# Altium footprint library Connector_Molex.PcbLib: 815 footprints (part 34 of 51)
Each footprint in its own frame and in the unit in brackets; x right, y up, seen from the top. Pads: shape width x height; smd on the part's side, far side on the other; paste and mask are expansions set on the pad; w line width, h text height; cw(c..) or ccw(c..) is an arc to the next point about the centre after c.
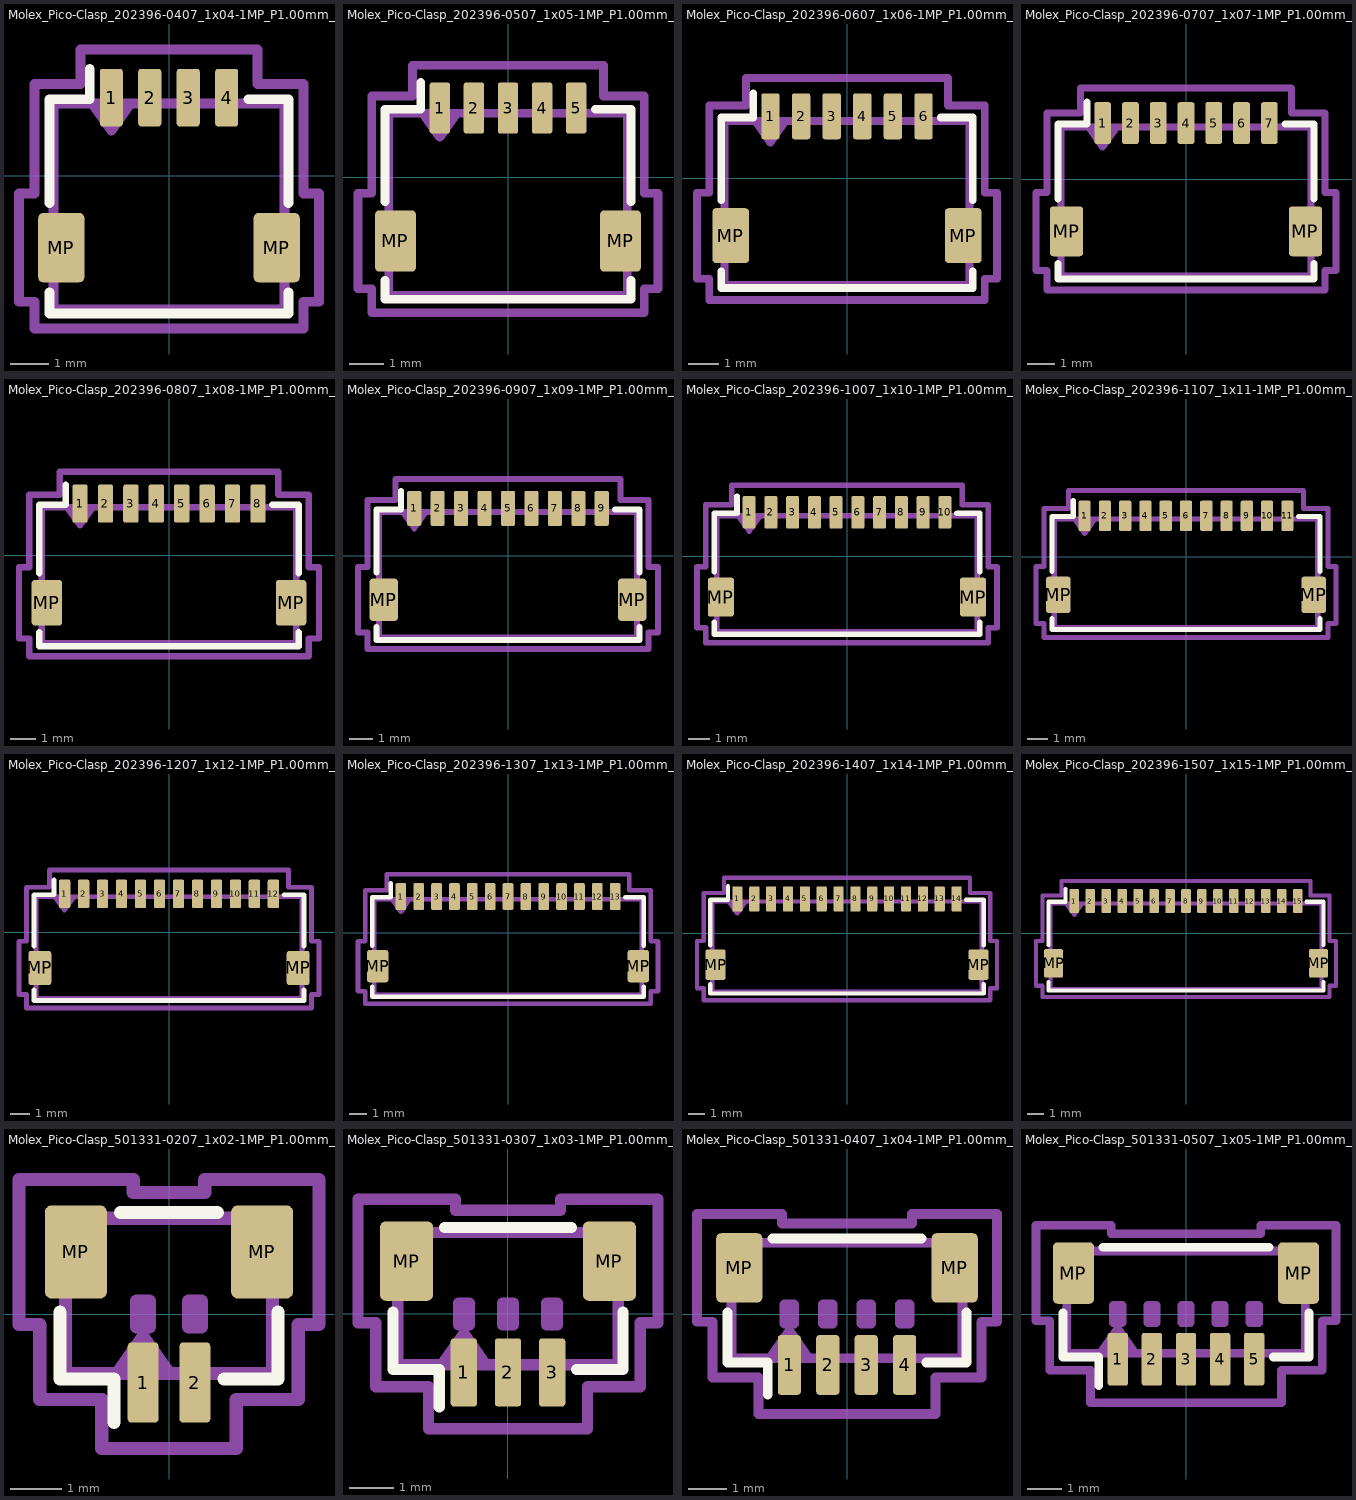
[diagram p33: the footprints below, top view; thin cyan lines are the x and y axes]

## Molex_Pico-Clasp_202396-0407_1x04-1MP_P1.00mm_Horizontal [mm]
pads (6):
  rrect25% 0.6x1.5 smd: 1(-1.5,2.025) 2(-0.5,2.025) 3(0.5,2.025) 4(1.5,2.025)
  rrect21% 1.2x1.8 smd: MP(-2.8,-1.875) MP(2.8,-1.875)
F.SilkS:
  lines w0.254: -3.11,-3.035 -3.11,-3.585 3.11,-3.585 3.11,-3.035 ; -3.11,-0.715 -3.11,1.985 -2.06,1.985 -2.06,2.775 ; 2.06,1.985 3.11,1.985 3.11,-0.715
Top Assembly:
  lines w0.254: -2,1.875 -1.5,1.168 -1,1.875 ; -3,-3.475 3,-3.475 3,1.875 -3,1.875 -3,-3.475
  text "'.Designator'" at -4.047,-3.61 h1
Top Courtyard:
  lines w0.254: -3.9,-3.28 -3.5,-3.28 -3.5,-3.98 3.5,-3.98 3.5,-3.28 3.9,-3.28 3.9,-0.47 3.5,-0.47 3.5,2.38 2.3,2.38 2.3,3.28 -2.3,3.28 -2.3,2.38 -3.5,2.38 -3.5,-0.47 -3.9,-0.47 -3.9,-3.28
Top Designator:
  text ".Designator" at -7.702,-0.858 h1.52

## Molex_Pico-Clasp_202396-0507_1x05-1MP_P1.00mm_Horizontal [mm]
pads (7):
  rrect25% 0.6x1.5 smd: 1(-2,2.025) 2(-1,2.025) 3(0,2.025) 4(1,2.025) 5(2,2.025)
  rrect21% 1.2x1.8 smd: MP(-3.3,-1.875) MP(3.3,-1.875)
F.SilkS:
  lines w0.254: -3.61,-3.035 -3.61,-3.585 3.61,-3.585 3.61,-3.035 ; -3.61,-0.715 -3.61,1.985 -2.56,1.985 -2.56,2.775 ; 2.56,1.985 3.61,1.985 3.61,-0.715
Top Assembly:
  lines w0.254: -2.5,1.875 -2,1.168 -1.5,1.875 ; -3.5,-3.475 3.5,-3.475 3.5,1.875 -3.5,1.875 -3.5,-3.475
  text "'.Designator'" at -4.047,-3.61 h1
Top Courtyard:
  lines w0.254: -4.4,-3.28 -4,-3.28 -4,-3.98 4,-3.98 4,-3.28 4.4,-3.28 4.4,-0.47 4,-0.47 4,2.38 2.8,2.38 2.8,3.28 -2.8,3.28 -2.8,2.38 -4,2.38 -4,-0.47 -4.4,-0.47 -4.4,-3.28
Top Designator:
  text ".Designator" at -7.618,-0.858 h1.52

## Molex_Pico-Clasp_202396-0607_1x06-1MP_P1.00mm_Horizontal [mm]
pads (8):
  rrect25% 0.6x1.5 smd: 1(-2.5,2.025) 2(-1.5,2.025) 3(-0.5,2.025) 4(0.5,2.025) 5(1.5,2.025) 6(2.5,2.025)
  rrect21% 1.2x1.8 smd: MP(-3.8,-1.875) MP(3.8,-1.875)
F.SilkS:
  lines w0.254: -4.11,-3.035 -4.11,-3.585 4.11,-3.585 4.11,-3.035 ; -4.11,-0.715 -4.11,1.985 -3.06,1.985 -3.06,2.775 ; 3.06,1.985 4.11,1.985 4.11,-0.715
Top Assembly:
  lines w0.254: -3,1.875 -2.5,1.168 -2,1.875 ; -4,-3.475 4,-3.475 4,1.875 -4,1.875 -4,-3.475
  text "'.Designator'" at -4.047,-3.61 h1
Top Courtyard:
  lines w0.254: -4.9,-3.28 -4.5,-3.28 -4.5,-3.98 4.5,-3.98 4.5,-3.28 4.9,-3.28 4.9,-0.47 4.5,-0.47 4.5,2.38 3.3,2.38 3.3,3.28 -3.3,3.28 -3.3,2.38 -4.5,2.38 -4.5,-0.47 -4.9,-0.47 -4.9,-3.28
Top Designator:
  text ".Designator" at -7.618,-0.858 h1.52

## Molex_Pico-Clasp_202396-0707_1x07-1MP_P1.00mm_Horizontal [mm]
pads (9):
  rrect25% 0.6x1.5 smd: 1(-3,2.025) 2(-2,2.025) 3(-1,2.025) 4(0,2.025) 5(1,2.025) 6(2,2.025) 7(3,2.025)
  rrect21% 1.2x1.8 smd: MP(-4.3,-1.875) MP(4.3,-1.875)
F.SilkS:
  lines w0.254: -4.61,-3.035 -4.61,-3.585 4.61,-3.585 4.61,-3.035 ; -4.61,-0.715 -4.61,1.985 -3.56,1.985 -3.56,2.775 ; 3.56,1.985 4.61,1.985 4.61,-0.715
Top Assembly:
  lines w0.254: -3.5,1.875 -3,1.168 -2.5,1.875 ; -4.5,-3.475 4.5,-3.475 4.5,1.875 -4.5,1.875 -4.5,-3.475
  text "'.Designator'" at -4.047,-3.61 h1
Top Courtyard:
  lines w0.254: -5.4,-3.28 -5,-3.28 -5,-3.98 5,-3.98 5,-3.28 5.4,-3.28 5.4,-0.47 5,-0.47 5,2.38 3.8,2.38 3.8,3.28 -3.8,3.28 -3.8,2.38 -5,2.38 -5,-0.47 -5.4,-0.47 -5.4,-3.28
Top Designator:
  text ".Designator" at -7.618,-0.858 h1.52

## Molex_Pico-Clasp_202396-0807_1x08-1MP_P1.00mm_Horizontal [mm]
pads (10):
  rrect25% 0.6x1.5 smd: 1(-3.5,2.025) 2(-2.5,2.025) 3(-1.5,2.025) 4(-0.5,2.025) 5(0.5,2.025) 6(1.5,2.025) 7(2.5,2.025) 8(3.5,2.025)
  rrect21% 1.2x1.8 smd: MP(-4.8,-1.875) MP(4.8,-1.875)
F.SilkS:
  lines w0.254: -5.11,-3.035 -5.11,-3.585 5.11,-3.585 5.11,-3.035 ; -5.11,-0.715 -5.11,1.985 -4.06,1.985 -4.06,2.775 ; 4.06,1.985 5.11,1.985 5.11,-0.715
Top Assembly:
  lines w0.254: -4,1.875 -3.5,1.168 -3,1.875 ; -5,-3.475 5,-3.475 5,1.875 -5,1.875 -5,-3.475
  text "'.Designator'" at -4.047,-3.61 h1
Top Courtyard:
  lines w0.254: -5.9,-3.28 -5.5,-3.28 -5.5,-3.98 5.5,-3.98 5.5,-3.28 5.9,-3.28 5.9,-0.47 5.5,-0.47 5.5,2.38 4.3,2.38 4.3,3.28 -4.3,3.28 -4.3,2.38 -5.5,2.38 -5.5,-0.47 -5.9,-0.47 -5.9,-3.28
Top Designator:
  text ".Designator" at -7.618,-0.858 h1.52

## Molex_Pico-Clasp_202396-0907_1x09-1MP_P1.00mm_Horizontal [mm]
pads (11):
  rrect25% 0.6x1.5 smd: 1(-4,2.025) 2(-3,2.025) 3(-2,2.025) 4(-1,2.025) 5(0,2.025) 6(1,2.025) 7(2,2.025) 8(3,2.025) 9(4,2.025)
  rrect21% 1.2x1.8 smd: MP(-5.3,-1.875) MP(5.3,-1.875)
F.SilkS:
  lines w0.254: -5.61,-3.035 -5.61,-3.585 5.61,-3.585 5.61,-3.035 ; -5.61,-0.715 -5.61,1.985 -4.56,1.985 -4.56,2.775 ; 4.56,1.985 5.61,1.985 5.61,-0.715
Top Assembly:
  lines w0.254: -4.5,1.875 -4,1.168 -3.5,1.875 ; -5.5,-3.475 5.5,-3.475 5.5,1.875 -5.5,1.875 -5.5,-3.475
  text "'.Designator'" at -4.047,-3.61 h1
Top Courtyard:
  lines w0.254: -6.4,-3.28 -6,-3.28 -6,-3.98 6,-3.98 6,-3.28 6.4,-3.28 6.4,-0.47 6,-0.47 6,2.38 4.8,2.38 4.8,3.28 -4.8,3.28 -4.8,2.38 -6,2.38 -6,-0.47 -6.4,-0.47 -6.4,-3.28
Top Designator:
  text ".Designator" at -7.618,-0.858 h1.52

## Molex_Pico-Clasp_202396-1007_1x10-1MP_P1.00mm_Horizontal [mm]
pads (12):
  rrect25% 0.6x1.5 smd: 1(-4.5,2.025) 2(-3.5,2.025) 3(-2.5,2.025) 4(-1.5,2.025) 5(-0.5,2.025) 6(0.5,2.025) 7(1.5,2.025) 8(2.5,2.025) 9(3.5,2.025) 10(4.5,2.025)
  rrect21% 1.2x1.8 smd: MP(-5.8,-1.875) MP(5.8,-1.875)
F.SilkS:
  lines w0.254: -6.11,-3.035 -6.11,-3.585 6.11,-3.585 6.11,-3.035 ; -6.11,-0.715 -6.11,1.985 -5.06,1.985 -5.06,2.775 ; 5.06,1.985 6.11,1.985 6.11,-0.715
Top Assembly:
  lines w0.254: -5,1.875 -4.5,1.168 -4,1.875 ; -6,-3.475 6,-3.475 6,1.875 -6,1.875 -6,-3.475
  text "'.Designator'" at -4.047,-3.61 h1
Top Courtyard:
  lines w0.254: -6.9,-3.28 -6.5,-3.28 -6.5,-3.98 6.5,-3.98 6.5,-3.28 6.9,-3.28 6.9,-0.47 6.5,-0.47 6.5,2.38 5.3,2.38 5.3,3.28 -5.3,3.28 -5.3,2.38 -6.5,2.38 -6.5,-0.47 -6.9,-0.47 -6.9,-3.28
Top Designator:
  text ".Designator" at -7.618,-0.858 h1.52

## Molex_Pico-Clasp_202396-1107_1x11-1MP_P1.00mm_Horizontal [mm]
pads (13):
  rrect25% 0.6x1.5 smd: 1(-5,2.025) 2(-4,2.025) 3(-3,2.025) 4(-2,2.025) 5(-1,2.025) 6(0,2.025) 7(1,2.025) 8(2,2.025) 9(3,2.025) 10(4,2.025) 11(5,2.025)
  rrect21% 1.2x1.8 smd: MP(-6.3,-1.875) MP(6.3,-1.875)
F.SilkS:
  lines w0.254: -6.61,-3.035 -6.61,-3.585 6.61,-3.585 6.61,-3.035 ; -6.61,-0.715 -6.61,1.985 -5.56,1.985 -5.56,2.775 ; 5.56,1.985 6.61,1.985 6.61,-0.715
Top Assembly:
  lines w0.254: -5.5,1.875 -5,1.168 -4.5,1.875 ; -6.5,-3.475 6.5,-3.475 6.5,1.875 -6.5,1.875 -6.5,-3.475
  text "'.Designator'" at -4.047,-3.61 h1
Top Courtyard:
  lines w0.254: -7.4,-3.28 -7,-3.28 -7,-3.98 7,-3.98 7,-3.28 7.4,-3.28 7.4,-0.47 7,-0.47 7,2.38 5.8,2.38 5.8,3.28 -5.8,3.28 -5.8,2.38 -7,2.38 -7,-0.47 -7.4,-0.47 -7.4,-3.28
Top Designator:
  text ".Designator" at -7.618,-0.858 h1.52

## Molex_Pico-Clasp_202396-1207_1x12-1MP_P1.00mm_Horizontal [mm]
pads (14):
  rrect25% 0.6x1.5 smd: 1(-5.5,2.025) 2(-4.5,2.025) 3(-3.5,2.025) 4(-2.5,2.025) 5(-1.5,2.025) 6(-0.5,2.025) 7(0.5,2.025) 8(1.5,2.025) 9(2.5,2.025) 10(3.5,2.025) 11(4.5,2.025) 12(5.5,2.025)
  rrect21% 1.2x1.8 smd: MP(-6.8,-1.875) MP(6.8,-1.875)
F.SilkS:
  lines w0.254: -7.11,-3.035 -7.11,-3.585 7.11,-3.585 7.11,-3.035 ; -7.11,-0.715 -7.11,1.985 -6.06,1.985 -6.06,2.775 ; 6.06,1.985 7.11,1.985 7.11,-0.715
Top Assembly:
  lines w0.254: -6,1.875 -5.5,1.168 -5,1.875 ; -7,-3.475 7,-3.475 7,1.875 -7,1.875 -7,-3.475
  text "'.Designator'" at -4.047,-3.61 h1
Top Courtyard:
  lines w0.254: -7.9,-3.28 -7.5,-3.28 -7.5,-3.98 7.5,-3.98 7.5,-3.28 7.9,-3.28 7.9,-0.47 7.5,-0.47 7.5,2.38 6.3,2.38 6.3,3.28 -6.3,3.28 -6.3,2.38 -7.5,2.38 -7.5,-0.47 -7.9,-0.47 -7.9,-3.28
Top Designator:
  text ".Designator" at -7.618,-0.858 h1.52

## Molex_Pico-Clasp_202396-1307_1x13-1MP_P1.00mm_Horizontal [mm]
pads (15):
  rrect25% 0.6x1.5 smd: 1(-6,2.025) 2(-5,2.025) 3(-4,2.025) 4(-3,2.025) 5(-2,2.025) 6(-1,2.025) 7(0,2.025) 8(1,2.025) 9(2,2.025) 10(3,2.025) 11(4,2.025) 12(5,2.025) 13(6,2.025)
  rrect21% 1.2x1.8 smd: MP(-7.3,-1.875) MP(7.3,-1.875)
F.SilkS:
  lines w0.254: -7.61,-3.035 -7.61,-3.585 7.61,-3.585 7.61,-3.035 ; -7.61,-0.715 -7.61,1.985 -6.56,1.985 -6.56,2.775 ; 6.56,1.985 7.61,1.985 7.61,-0.715
Top Assembly:
  lines w0.254: -6.5,1.875 -6,1.168 -5.5,1.875 ; -7.5,-3.475 7.5,-3.475 7.5,1.875 -7.5,1.875 -7.5,-3.475
  text "'.Designator'" at -4.047,-3.61 h1
Top Courtyard:
  lines w0.254: -8.4,-3.28 -8,-3.28 -8,-3.98 8,-3.98 8,-3.28 8.4,-3.28 8.4,-0.47 8,-0.47 8,2.38 6.8,2.38 6.8,3.28 -6.8,3.28 -6.8,2.38 -8,2.38 -8,-0.47 -8.4,-0.47 -8.4,-3.28
Top Designator:
  text ".Designator" at -7.618,-0.858 h1.52

## Molex_Pico-Clasp_202396-1407_1x14-1MP_P1.00mm_Horizontal [mm]
pads (16):
  rrect25% 0.6x1.5 smd: 1(-6.5,2.025) 2(-5.5,2.025) 3(-4.5,2.025) 4(-3.5,2.025) 5(-2.5,2.025) 6(-1.5,2.025) 7(-0.5,2.025) 8(0.5,2.025) 9(1.5,2.025) 10(2.5,2.025) 11(3.5,2.025) 12(4.5,2.025) 13(5.5,2.025) 14(6.5,2.025)
  rrect21% 1.2x1.8 smd: MP(-7.8,-1.875) MP(7.8,-1.875)
F.SilkS:
  lines w0.254: -8.11,-3.035 -8.11,-3.585 8.11,-3.585 8.11,-3.035 ; -8.11,-0.715 -8.11,1.985 -7.06,1.985 -7.06,2.775 ; 7.06,1.985 8.11,1.985 8.11,-0.715
Top Assembly:
  lines w0.254: -7,1.875 -6.5,1.168 -6,1.875 ; -8,-3.475 8,-3.475 8,1.875 -8,1.875 -8,-3.475
  text "'.Designator'" at -4.047,-3.61 h1
Top Courtyard:
  lines w0.254: -8.9,-3.28 -8.5,-3.28 -8.5,-3.98 8.5,-3.98 8.5,-3.28 8.9,-3.28 8.9,-0.47 8.5,-0.47 8.5,2.38 7.3,2.38 7.3,3.28 -7.3,3.28 -7.3,2.38 -8.5,2.38 -8.5,-0.47 -8.9,-0.47 -8.9,-3.28
Top Designator:
  text ".Designator" at -7.618,-0.858 h1.52

## Molex_Pico-Clasp_202396-1507_1x15-1MP_P1.00mm_Horizontal [mm]
pads (17):
  rrect25% 0.6x1.5 smd: 1(-7,2.025) 2(-6,2.025) 3(-5,2.025) 4(-4,2.025) 5(-3,2.025) 6(-2,2.025) 7(-1,2.025) 8(0,2.025) 9(1,2.025) 10(2,2.025) 11(3,2.025) 12(4,2.025) 13(5,2.025) 14(6,2.025) 15(7,2.025)
  rrect21% 1.2x1.8 smd: MP(-8.3,-1.875) MP(8.3,-1.875)
F.SilkS:
  lines w0.254: -8.61,-3.035 -8.61,-3.585 8.61,-3.585 8.61,-3.035 ; -8.61,-0.715 -8.61,1.985 -7.56,1.985 -7.56,2.775 ; 7.56,1.985 8.61,1.985 8.61,-0.715
Top Assembly:
  lines w0.254: -7.5,1.875 -7,1.168 -6.5,1.875 ; -8.5,-3.475 8.5,-3.475 8.5,1.875 -8.5,1.875 -8.5,-3.475
  text "'.Designator'" at -4.047,-3.61 h1
Top Courtyard:
  lines w0.254: -9.4,-3.28 -9,-3.28 -9,-3.98 9,-3.98 9,-3.28 9.4,-3.28 9.4,-0.47 9,-0.47 9,2.38 7.8,2.38 7.8,3.28 -7.8,3.28 -7.8,2.38 -9,2.38 -9,-0.47 -9.4,-0.47 -9.4,-3.28
Top Designator:
  text ".Designator" at -7.618,-0.858 h1.52

## Molex_Pico-Clasp_501331-0207_1x02-1MP_P1.00mm_Vertical [mm]
pads (4):
  rrect25% 0.6x1.55 smd: 1(-0.5,-1.325) 2(0.5,-1.325)
  rrect21% 1.2x1.8 smd: MP(-1.8,1.2) MP(1.8,1.2)
F.SilkS:
  lines w0.254: -2.11,0.04 -2.11,-1.26 -1.06,-1.26 -1.06,-2.1 ; -0.94,1.96 0.94,1.96 ; 1.06,-1.26 2.11,-1.26 2.11,0.04
Top Assembly:
  lines w0.254: -1,-1.15 -0.5,-0.443 0,-1.15 ; -2,-1.15 2,-1.15 2,1.85 -2,1.85 -2,-1.15 ; -0.625,-0.25 -0.375,-0.25 -0.375,0.25 -0.625,0.25 -0.625,-0.25 ; 0.375,-0.25 0.625,-0.25 0.625,0.25 0.375,0.25 0.375,-0.25
  text "'.Designator'" at -4.047,0.31 h1
Top Courtyard:
  lines w0.254: -2.9,-0.2 -2.5,-0.2 -2.5,-1.65 -1.3,-1.65 -1.3,-2.6 1.3,-2.6 1.3,-1.65 2.5,-1.65 2.5,-0.2 2.9,-0.2 2.9,2.6 0.69,2.6 0.69,2.35 -0.69,2.35 -0.69,2.6 -2.9,2.6 -2.9,-0.2
Top Designator:
  text ".Designator" at -7.768,-0.508 h1.52

## Molex_Pico-Clasp_501331-0307_1x03-1MP_P1.00mm_Vertical [mm]
pads (5):
  rrect25% 0.6x1.55 smd: 1(-1,-1.325) 2(0,-1.325) 3(1,-1.325)
  rrect21% 1.2x1.8 smd: MP(-2.3,1.2) MP(2.3,1.2)
F.SilkS:
  lines w0.254: -2.61,0.04 -2.61,-1.26 -1.56,-1.26 -1.56,-2.1 ; -1.44,1.96 1.44,1.96 ; 1.56,-1.26 2.61,-1.26 2.61,0.04
Top Assembly:
  lines w0.254: -1.5,-1.15 -1,-0.443 -0.5,-1.15 ; -2.5,-1.15 2.5,-1.15 2.5,1.85 -2.5,1.85 -2.5,-1.15 ; -1.125,-0.25 -0.875,-0.25 -0.875,0.25 -1.125,0.25 -1.125,-0.25 ; -0.125,-0.25 0.125,-0.25 0.125,0.25 -0.125,0.25 -0.125,-0.25 ; 0.875,-0.25 1.125,-0.25 1.125,0.25 0.875,0.25 0.875,-0.25
  text "'.Designator'" at -4.047,0.31 h1
Top Courtyard:
  lines w0.254: -3.4,-0.2 -3,-0.2 -3,-1.65 -1.8,-1.65 -1.8,-2.6 1.8,-2.6 1.8,-1.65 3,-1.65 3,-0.2 3.4,-0.2 3.4,2.6 1.19,2.6 1.19,2.35 -1.19,2.35 -1.19,2.6 -3.4,2.6 -3.4,-0.2
Top Designator:
  text ".Designator" at -7.768,-0.508 h1.52

## Molex_Pico-Clasp_501331-0407_1x04-1MP_P1.00mm_Vertical [mm]
pads (6):
  rrect25% 0.6x1.55 smd: 1(-1.5,-1.325) 2(-0.5,-1.325) 3(0.5,-1.325) 4(1.5,-1.325)
  rrect21% 1.2x1.8 smd: MP(-2.8,1.2) MP(2.8,1.2)
F.SilkS:
  lines w0.254: -3.11,0.04 -3.11,-1.26 -2.06,-1.26 -2.06,-2.1 ; -1.94,1.96 1.94,1.96 ; 2.06,-1.26 3.11,-1.26 3.11,0.04
Top Assembly:
  lines w0.254: -2,-1.15 -1.5,-0.443 -1,-1.15 ; -3,-1.15 3,-1.15 3,1.85 -3,1.85 -3,-1.15 ; -1.625,-0.25 -1.375,-0.25 -1.375,0.25 -1.625,0.25 -1.625,-0.25 ; -0.625,-0.25 -0.375,-0.25 -0.375,0.25 -0.625,0.25 -0.625,-0.25 ; 0.375,-0.25 0.625,-0.25 0.625,0.25 0.375,0.25 0.375,-0.25 ; 1.375,-0.25 1.625,-0.25 1.625,0.25 1.375,0.25 1.375,-0.25
  text "'.Designator'" at -4.047,0.31 h1
Top Courtyard:
  lines w0.254: -3.9,-0.2 -3.5,-0.2 -3.5,-1.65 -2.3,-1.65 -2.3,-2.6 2.3,-2.6 2.3,-1.65 3.5,-1.65 3.5,-0.2 3.9,-0.2 3.9,2.6 1.69,2.6 1.69,2.35 -1.69,2.35 -1.69,2.6 -3.9,2.6 -3.9,-0.2
Top Designator:
  text ".Designator" at -7.702,-0.508 h1.52

## Molex_Pico-Clasp_501331-0507_1x05-1MP_P1.00mm_Vertical [mm]
pads (7):
  rrect25% 0.6x1.55 smd: 1(-2,-1.325) 2(-1,-1.325) 3(0,-1.325) 4(1,-1.325) 5(2,-1.325)
  rrect21% 1.2x1.8 smd: MP(-3.3,1.2) MP(3.3,1.2)
F.SilkS:
  lines w0.254: -3.61,0.04 -3.61,-1.26 -2.56,-1.26 -2.56,-2.1 ; -2.44,1.96 2.44,1.96 ; 2.56,-1.26 3.61,-1.26 3.61,0.04
Top Assembly:
  lines w0.254: -2.5,-1.15 -2,-0.443 -1.5,-1.15 ; -3.5,-1.15 3.5,-1.15 3.5,1.85 -3.5,1.85 -3.5,-1.15 ; -2.125,-0.25 -1.875,-0.25 -1.875,0.25 -2.125,0.25 -2.125,-0.25 ; -1.125,-0.25 -0.875,-0.25 -0.875,0.25 -1.125,0.25 -1.125,-0.25 ; -0.125,-0.25 0.125,-0.25 0.125,0.25 -0.125,0.25 -0.125,-0.25 ; 0.875,-0.25 1.125,-0.25 1.125,0.25 0.875,0.25 0.875,-0.25 ; 1.875,-0.25 2.125,-0.25 2.125,0.25 1.875,0.25 1.875,-0.25
  text "'.Designator'" at -4.047,0.31 h1
Top Courtyard:
  lines w0.254: -4.4,-0.2 -4,-0.2 -4,-1.65 -2.8,-1.65 -2.8,-2.6 2.8,-2.6 2.8,-1.65 4,-1.65 4,-0.2 4.4,-0.2 4.4,2.6 2.19,2.6 2.19,2.35 -2.19,2.35 -2.19,2.6 -4.4,2.6 -4.4,-0.2
Top Designator:
  text ".Designator" at -7.618,-0.508 h1.52